# EAGLE library part ZXGD3001E6 (library di_ic)
Zetex Semi - High-speed non-inverting single MOSFET gate driver, 9A(peak). http://www.diodes.com/datasheets/ZXGD3001E6.pdf Part Number ZXGD3001E6 VIN Max.,V 12 VCCMax.,V 12 Isource @ IIN = 10mA, A 4.2 Isink ,A 2.2 IsinkPKMax.,A 9 IIN Max.,V 1 td(rise),ns 1.3 tr,ns 7.3 td(fall),ns 3 tf,ns 11
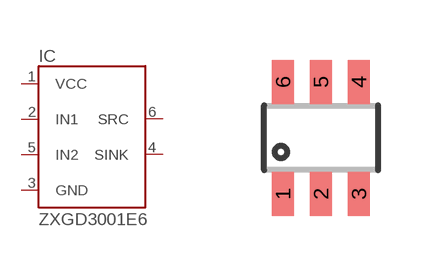
[diagram p40: symbol with the pads of SOT23-6; footprint SOT23-6]

Designator prefix IC

## ZXGD3001E6  [SOT23-6]
1  VCC  pwr
2  IN1  in
3  GND  pwr
4  SINK
5  IN2  in
6  SRC

## Footprint SOT23-6 (pad centres in mm)
Small Outline Transistor
smd 0.55 x 1.1: 1 -0.95,-1.4; 2 0,-1.4; 3 0.95,-1.4; 4 0.95,1.4; 5 0,1.4; 6 -0.95,1.4